# Altium footprint library KN_ECART.PcbLib: 34 footprints (part 1 of 3)
Each footprint in its own frame and in the unit in brackets; x right, y up, seen from the top. Pads: shape width x height; smd on the part's side, far side on the other; paste and mask are expansions set on the pad; w line width, h text height; cw(c..) or ccw(c..) is an arc to the next point about the centre after c.
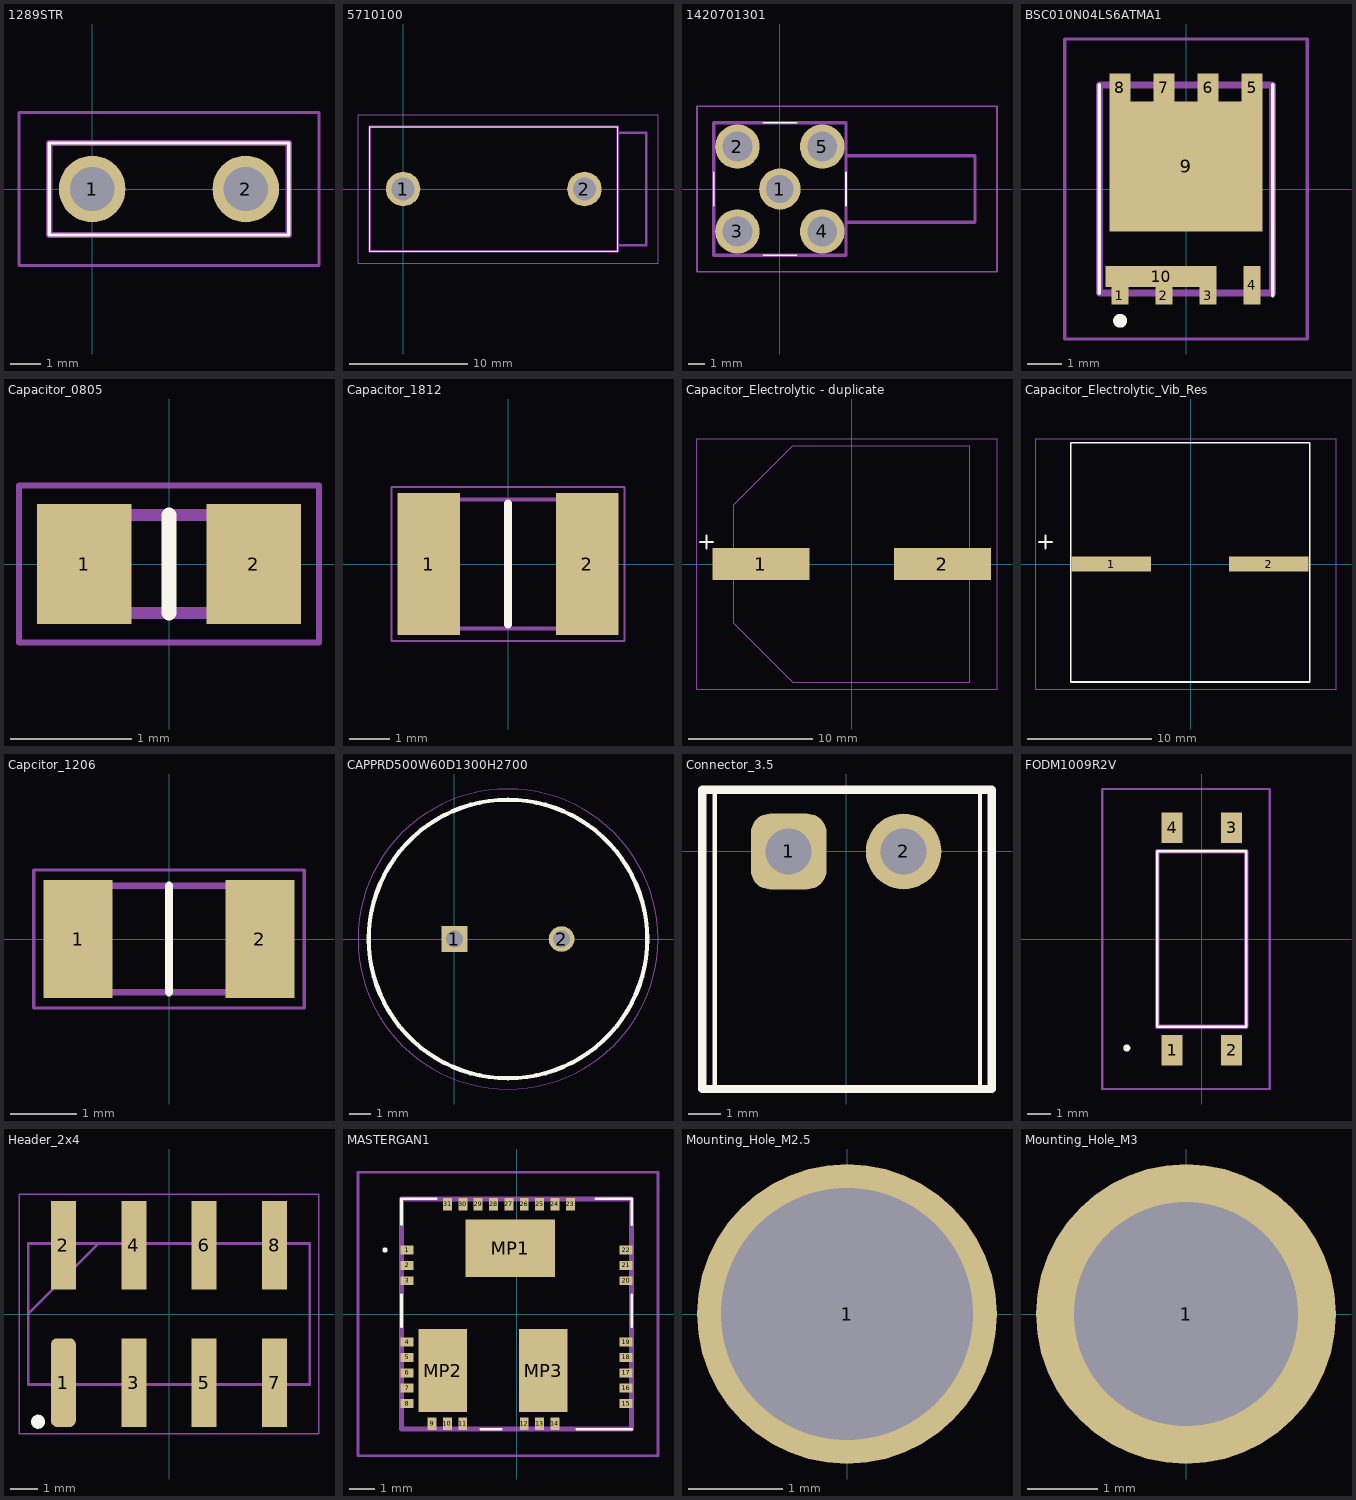
[diagram p0: the footprints below, top view; thin cyan lines are the x and y axes]

## 1289STR [mm]
pads (2):
  round 2.205 hole 1.47: 1(0,0) 2(5.08,0)
Top Overlay:
  lines w0.1: -1.42,-1.525 -1.42,1.525 6.5,1.525 6.5,-1.525 -1.42,-1.525
Mechanical 13:
  lines w0.2: -1.42,-1.525 -1.42,1.525 6.5,1.525 6.5,-1.525 -1.42,-1.525
Mechanical 15:
  lines w0.1: -2.42,-2.525 -2.42,2.525 7.5,2.525 7.5,-2.525 -2.42,-2.525
3D body "1289-STR.stp": height 14.47, standoff -5, extent -1.42,-1.525 6.5,1.525

## 5710100 [mm]
pads (2):
  round 2.91 hole 1.94: 1(0,0) 2(15.3,0)
Top Overlay:
  lines w0.1: -2.8,-5.25 18.1,-5.25 18.1,5.25 -2.8,5.25 -2.8,-5.25
Mechanical 13:
  lines w0.2: 18.1,-4.75 20.5,-4.75 20.5,4.75 18.1,4.75 ; -2.8,-5.25 18.1,-5.25 18.1,5.25 -2.8,5.25 -2.8,-5.25
Mechanical 15:
  lines w0.1: -3.8,-6.25 21.5,-6.25 21.5,6.25 -3.8,6.25 -3.8,-6.25
3D body "571-0100.stp": height 12.4, standoff -5.5, extent -2.76,-4.9 20.54,5.6

## 1420701301 [mil]
pads (5):
  round 97.52 hole 65: 1(0,0)
  round 105 hole 70: 2(-100,100) 3(-100,-100) 4(100,-100) 5(100,100)
Top Overlay:
  lines w3.94: -155.98,-39.37 -155.98,39.37 ; -39.37,-155.98 39.37,-155.98 ; -39.37,155.98 39.37,155.98 ; 155.98,-39.37 155.98,39.37
Mechanical 13:
  lines w7.87: 157.48,-78.74 460,-78.74 460,78.74 157.48,78.74 ; -155.98,-155.98 155.98,-155.98 155.98,155.98 -155.98,155.98 -155.98,-155.98
Mechanical 15:
  lines w3.94: -195.35,-195.35 511.81,-195.35 511.81,195.35 -195.35,195.35 -195.35,-195.35
3D body "142-0701-301.stp": height 377.76, standoff -152.24, extent -149.7,-156 466.3,156

## BSC010N04LS6ATMA1 [mm]
pads (10):
  rect 0.5x0.5 smd: 1(-1.905,-3.075) 2(-0.635,-3.075) 3(0.635,-3.075)
  rect 0.5x1.1 smd: 4(1.905,-2.775)
  rect 0.6x0.8 smd: 5(1.905,2.925) 6(0.635,2.925) 7(-0.635,2.925) 8(-1.905,2.925)
  rect 4.41x3.75 smd: 9(0,0.65)
  rect 3.2x0.6 smd: 10(-0.715,-2.525)
Top Overlay:
  lines w0.1: -2.5,-3 -2.5,3 ; 2.5,-3.075 2.5,3
  lines w0.2: -2,-3.8 ccw(c-1.9,-3.8) -1.8,-3.8 ccw(c-1.9,-3.8) -2,-3.8
Mechanical 13:
  lines w0.2: -2.5,-3 2.5,-3 2.5,3 -2.5,3 -2.5,-3
Mechanical 15:
  lines w0.1: -3.5,-4.325 3.5,-4.325 3.5,4.325 -3.5,4.325 -3.5,-4.325
3D body "BSC014N06NSATMA1.stp": height 1.2, standoff 0, extent -2.5,-3.275 2.5,3.265

## Capacitor_0805 [mm] "Capacitor - standard SMD"
pads (2):
  rect 0.78x0.99 smd: 1(-0.7,0) 2(0.7,0)
Top Overlay:
  lines w0.127: 0,-0.405 0,0.405
Mechanical 13:
  lines w0.1: -0.8,-0.405 0.8,-0.405 0.8,0.405 -0.8,0.405 -0.8,-0.405
Mechanical 15:
  lines w0.05: -1.24,-0.65 1.24,-0.65 1.24,0.65 -1.24,0.65 -1.24,-0.65
3D body "06033D225MAT2A.stp": height 0.9, standoff 0, extent -0.8,-0.405 0.8,0.405

## Capacitor_1812 [mm] "Capacitor - Stnadard SMD"
pads (2):
  rect 1.56x3.52 smd: 1(-1.97,0) 2(1.97,0)
Top Overlay:
  lines w0.2: 0,-1.5 0,1.5
Mechanical 13:
  lines w0.1: -2.3,-1.6 -2.3,1.6 2.3,1.6 2.3,-1.6 -2.3,-1.6
Mechanical 15:
  lines w0.05: -2.9,-1.91 -2.9,1.91 2.9,1.91 2.9,-1.91 -2.9,-1.91
3D body "1812HC332KAZ2A.stp": height 2.8, standoff 0, extent -2.3,-1.6 2.3,1.6

## Capacitor_Electrolytic - duplicate [mm] "Capacitor _ Electrolytic SMD"
pads (2):
  rect 7.8x2.6 smd: 1(-7.3,0) 2(7.3,0)
Top Overlay:
  lines w0.178: -12.192,1.778 -11.684,1.778 -11.176,1.778 ; -11.684,1.27 -11.684,2.286
Mechanical 13:
  lines w0.1: -9.5,-4.75 -4.75,-9.5 9.5,-9.5 9.5,9.5 -4.75,9.5 -9.5,4.75 -9.5,-4.75
Mechanical 15:
  lines w0.05: -12.446,-10.1 -12.446,10.1 11.7,10.1 11.7,-10.1 -12.446,-10.1
3D body "400SGV47M18X21.5.stp": height 22, standoff 0, extent -10.4,-9.6 10.4,9.6

## Capacitor_Electrolytic_Vib_Res [mm] "Capacitor _ Electrolytic SMD"
pads (2):
  rect 6.4x1.2 smd: 1(-6.4,0) 2(6.3,0)
Top Overlay:
  lines w0.127: -9.65,-9.5 9.6,-9.5 9.6,9.75 -9.65,9.75 -9.65,-9.5
  lines w0.178: -12.192,1.778 -11.684,1.778 -11.176,1.778 ; -11.684,1.27 -11.684,2.286
Mechanical 15:
  lines w0.05: -12.446,-10.1 11.7,-10.1 11.7,10.1 -12.446,10.1 -12.446,-10.1
3D body: height 21, standoff 0, extent -9,-8.75 9,9.25

## Capcitor_1206 [mm] "Capacitor - Stnadard SMD"
pads (2):
  rect 1.04x1.78 smd: 1(-1.37,0) 2(1.37,0)
Top Overlay:
  lines w0.127: 0,-0.8 0,0.8
Mechanical 13:
  lines w0.1: -1.6,-0.8 1.6,-0.8 1.6,0.8 -1.6,0.8 -1.6,-0.8
Mechanical 15:
  lines w0.05: -2.04,-1.04 2.04,-1.04 2.04,1.04 -2.04,1.04 -2.04,-1.04
3D body "GRM3192C1E103JA01D.stp": height 0.95, standoff 0, extent -1.6,-0.8 1.6,0.8

## CAPPRD500W60D1300H2700 [mm]
pads (2):
  rect 1.2x1.2 hole 0.8: 1(0,0)
  round 1.2 hole 0.8: 2(5,0)
Top Overlay:
  circle w0.2: c2.5,0 r6.5
Mechanical 13:
  circle w0.1: c2.5,0 r6.5
Mechanical 15:
  circle w0.05: c2.5,0 r7
3D body "ESH226M500AL4AA.stp": height 27, standoff -20, extent -4.227,-6.75 9.227,6.75

## Connector_3.5 [mm] "Connector"
pads (2):
  rrect50% 2.3x2.3 hole 1.4: 1(-1.75,0)
  round 2.3 hole 1.4: 2(1.75,0)
Top Overlay:
  lines w0.127: -4,-7.225 -4,1.875 ; 4.075,-7.2 4.075,1.9
  lines w0.254: -4.375,-7.225 4.425,-7.225 4.425,1.875 -4.375,1.875 -4.375,-7.225
3D body: height 20, standoff 0, extent -4,-7.225 4.075,1.875

## FODM1009R2V [mm]
pads (4):
  rect 0.9x1.3 smd: 1(-1.27,-4.75) 2(1.27,-4.75) 3(1.27,4.75) 4(-1.27,4.75)
Top Overlay:
  lines w0.1: -1.9,-3.75 1.9,-3.75 1.9,3.75 -1.9,3.75 -1.9,-3.75
  lines w0.2: -3.2,-4.7 ccw(c-3.2,-4.65) -3.2,-4.6 ; -3.2,-4.7 cw(c-3.2,-4.65) -3.2,-4.6 ; -3.2,-4.7 ccw(c-3.2,-4.65) -3.2,-4.6
Mechanical 13:
  lines w0.2: -1.9,-3.75 1.9,-3.75 1.9,3.75 -1.9,3.75 -1.9,-3.75
Mechanical 15:
  lines w0.1: -4.25,-6.4 2.9,-6.4 2.9,6.4 -4.25,6.4 -4.25,-6.4
3D body: height 2.2, standoff 0.2, extent -1.905,-4.445 1.905,4.445

## Header_2x4 [mm] "Goldpins Male"
pads (8):
  rrect50% 0.9x3.2 smd: 1(-3.81,-2.475)
  rect 0.9x3.2 smd: 2(-3.81,2.475) 3(-1.27,-2.475) 4(-1.27,2.475) 5(1.27,-2.475) 6(1.27,2.475) 7(3.81,-2.475) 8(3.81,2.475)
Top Overlay:
  circle w0.254: c-4.724,-3.886 r0.127
Mechanical 13:
  lines w0.1: -5.08,0 -2.54,2.54 ; -5.08,-2.54 5.08,-2.54 5.08,2.54 -5.08,2.54 -5.08,-2.54
Mechanical 15:
  lines w0.05: -5.405,-4.325 5.405,-4.325 5.405,4.325 -5.405,4.325 -5.405,-4.325
3D body "61030821121.stp": height 10.05, standoff 0, extent -5.155,-3.75 5.155,3.75

## MASTERGAN1 [mm]
pads (34):
  rect 0.5x0.35 smd: 1(-4.28,2.5) 2(-4.28,1.9) 3(-4.28,1.3) 4(-4.28,-1.1) 5(-4.28,-1.7) 6(-4.28,-2.3) 7(-4.28,-2.9) 8(-4.28,-3.5) 15(4.28,-3.5) 16(4.28,-2.9) 17(4.28,-2.3) 18(4.28,-1.7) 19(4.28,-1.1) 20(4.28,1.3) 21(4.28,1.9) 22(4.28,2.5)
  rect 0.35x0.5 smd: 9(-3.305,-4.29) 10(-2.705,-4.29) 11(-2.105,-4.29) 12(0.3,-4.29) 13(0.9,-4.29) 14(1.5,-4.29) 23(2.1,4.29) 24(1.5,4.29) 25(0.9,4.29) 26(0.3,4.29) 27(-0.3,4.29) 28(-0.9,4.29) 29(-1.5,4.29) 30(-2.1,4.29) 31(-2.7,4.29)
  rect 3.5x2.26 smd: MP1(-0.25,2.57)
  rect 1.9x3.25 smd: MP2(-2.88,-2.215) MP3(1.05,-2.215)
Top Overlay:
  lines w0.1: -4.5,4.5 -3.15,4.5 -4.5,4.5 ; -4.5,4.5 -4.5,3.5 -4.5,4.5 ; 4.5,4.5 3.1,4.5 4.5,4.5 ; 4.5,4.5 4.5,3.5 4.5,4.5 ; -5.2,2.5 cw(c-5.15,2.5) -5.1,2.5 cw(c-5.15,2.5) -5.2,2.5 ; -4.5,-0.5 -4.5,0.75 -4.5,-0.5 ; -1.4,-4.5 -0.6,-4.5 -1.4,-4.5 ; 2.35,-4.5 4.5,-4.5 2.35,-4.5 ; 4.5,-0.5 4.5,0.75 4.5,-0.5
Mechanical 13:
  lines w0.2: -4.5,-4.5 4.5,-4.5 4.5,4.5 -4.5,4.5 -4.5,-4.5
Mechanical 15:
  lines w0.1: -6.2,-5.54 5.53,-5.54 5.53,5.54 -6.2,5.54 -6.2,-5.54
3D body "MASTERGAN1.stp": height 1.1, standoff 0, extent -4.5,-4.5 4.5,4.5

## Mounting_Hole_M2.5 [mil]
pads (1):
  round 126 hole 106: 1(0,0)

## Mounting_Hole_M3 [mil]
pads (1):
  round 169 hole 126: 1(0,0)